# Altium footprint library CCG15.PcbLib: 1 footprints
Each footprint in its own frame and in the unit in brackets; x right, y up, seen from the top. Pads: shape width x height; smd on the part's side, far side on the other; paste and mask are expansions set on the pad; w line width, h text height; cw(c..) or ccw(c..) is an arc to the next point about the centre after c.
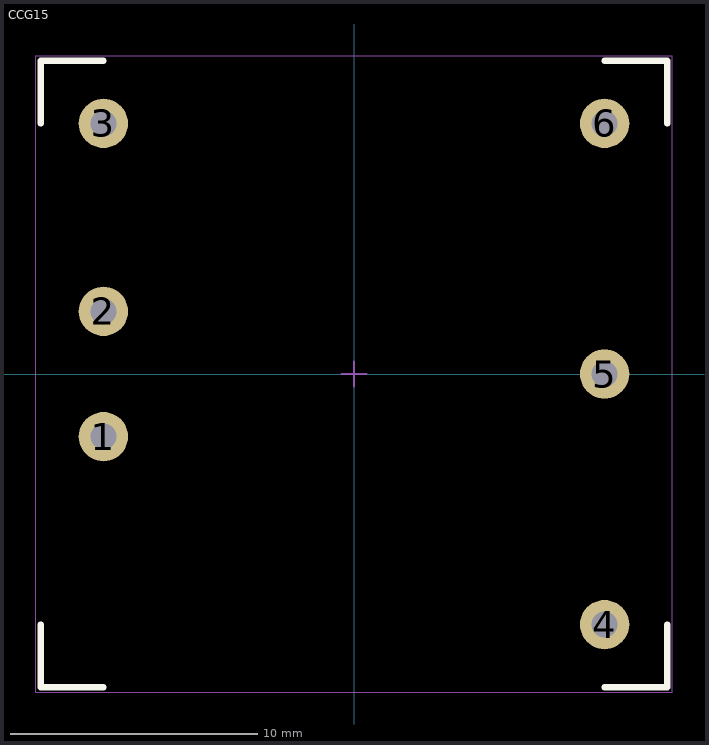
[diagram p0: the footprint, top view; thin cyan lines are the x and y axes]

## CCG15 [mm] "Isolated DC/DC converter, TDK-Lambda CCG15 series"
pads (6):
  round 2 hole 1.05: 1(-10.16,-2.54) 2(-10.16,2.54) 3(-10.16,10.16) 4(10.16,-10.16) 5(10.16,0) 6(10.16,10.16)
Top Overlay:
  lines w0.254: -12.7,-10.16 -12.7,-12.7 -10.16,-12.7 ; -12.7,10.16 -12.7,12.7 -10.16,12.7 ; 10.16,-12.7 12.7,-12.7 12.7,-10.16 ; 10.16,12.7 12.7,12.7 12.7,10.16
Mechanical 15:
  lines w0.05: -12.9,-12.9 12.9,-12.9 12.9,12.9 -12.9,12.9 -12.9,-12.9
  lines w0.1: -0.5,0 0.5,0 ; 0,-0.5 0,0.5
3D body: height 0.25, standoff -26.8, extent -12.7,9.7 -12.7,9.7
3D body: height 9.9, standoff 0, extent -12.7,-12.7 12.7,12.7